# Altium footprint library RetroPie-CM3.PcbLib: 18 footprints (part 2 of 2)
Each footprint in its own frame and in the unit in brackets; x right, y up, seen from the top. Pads: shape width x height; smd on the part's side, far side on the other; paste and mask are expansions set on the pad; w line width, h text height; cw(c..) or ccw(c..) is an arc to the next point about the centre after c.
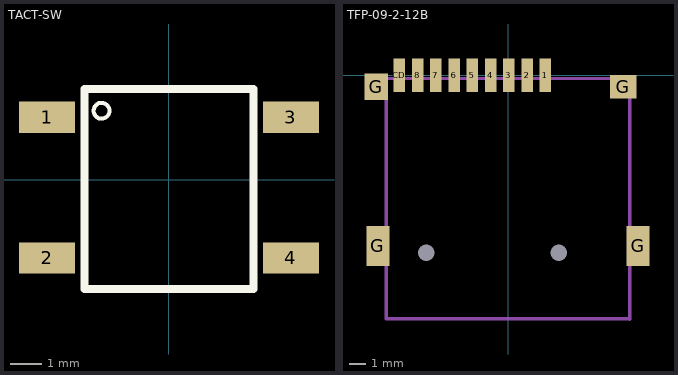
[diagram p1: the footprints below, top view; thin cyan lines are the x and y axes]

## TACT-SW [mm] "Generic Tactile Switch"
pads (4):
  rect 1.8x1 smd: 1(-3.9,2) 2(-3.9,-2.5) 3(3.9,2) 4(3.9,-2.5)
Top Overlay:
  circle w0.127: c-2.159,2.21 r0.254
  lines w0.254: -2.7,-3.486 -2.7,2.9 2.7,2.9 2.7,-3.486 -2.7,-3.486

## TFP-09-2-12B [mm]
pads (15):
  round 0 hole 1: 0(-4.93,-10.7) 0(3.05,-10.7)
  rect 0.7x2 smd: 1(2.25,0) 2(1.15,0) 3(0.05,0) 4(-1.05,0) 5(-2.15,0) 6(-3.25,0) 7(-4.35,0) 8(-5.45,0) CD(-6.55,0)
  rect 1.4x1.6 smd: G(-7.95,-0.7)
  rect 1.4x2.4 smd: G(-7.85,-10.3) G(7.85,-10.3)
  rect 1.6x1.4 smd: G(6.95,-0.7)
Mechanical 13:
  lines w0.2: 7.35,-14.732 7.35,-0.2 -7.35,-0.2 -7.35,-14.7 7.35,-14.7